# Altium schematic symbol library SchLib.SchLib: 3 symbols
Pins are listed as number, name and electrical type; pins without a type are passive.

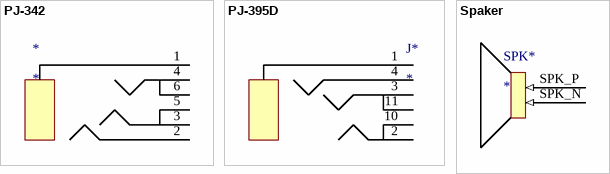
[diagram p0: symbols PJ-342 to Spaker]

## PJ-342
designator *
footprint PJ-342
pins: 1, 2, 3, 4, 5, 6

## PJ-395D
designator J*
footprint PJ-395D
pins: 1, 2, 3, 4, 10, 11

## Spaker
designator SPK*
footprint SPAKER
pins: SPK_N (in), SPK_P (in)